# Altium footprint library ALTAIR_PD_NoLeads-FlatPackage.PcbLib: 5 footprints
Each footprint in its own frame and in the unit in brackets; x right, y up, seen from the top. Pads: shape width x height; smd on the part's side, far side on the other; paste and mask are expansions set on the pad; w line width, h text height; cw(c..) or ccw(c..) is an arc to the next point about the centre after c.
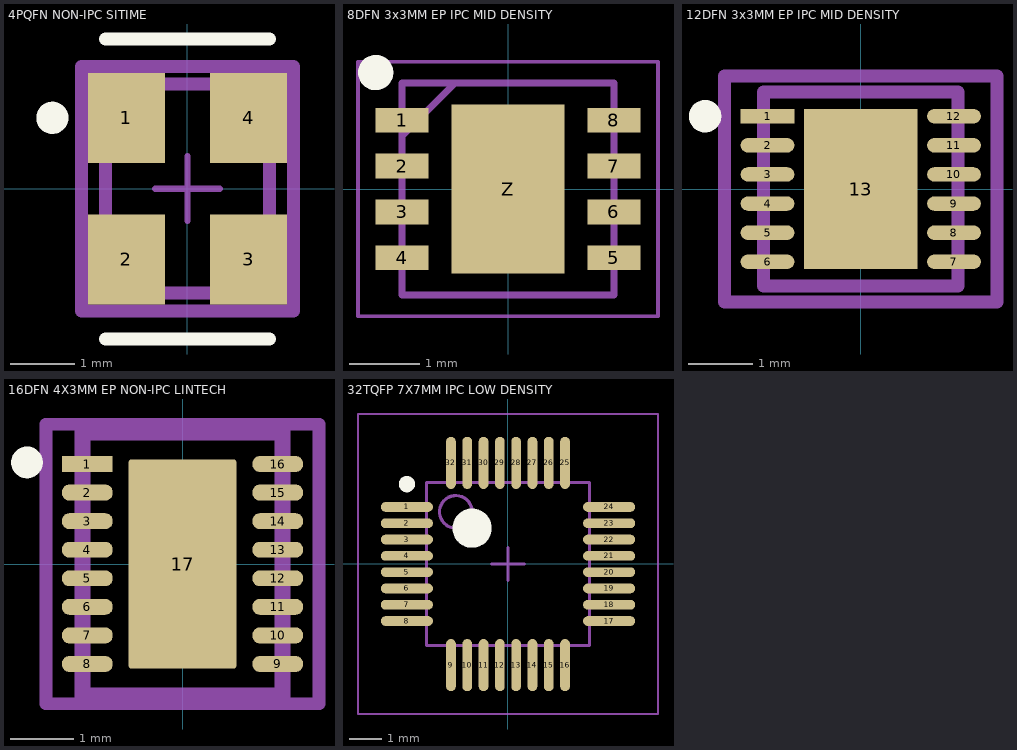
[diagram p0: the footprints below, top view; thin cyan lines are the x and y axes]

## 4PQFN NON-IPC SITIME [mm] "FP-SiT1602-2-MFG"
pads (4):
  rect 1.2x1.4 smd paste+0 mask+0: 1(-0.95,1.1) 2(-0.95,-1.1) 3(0.95,-1.1) 4(0.95,1.1)
Top Overlay:
  circle w0.25: c-2.1,1.1 r0.125
  lines w0.2: -1.275,-2.338 1.275,-2.338 ; -1.275,2.325 1.275,2.325
Top Assembly:
  lines w0.2: -1.65,-1.9 -1.65,1.9 1.65,1.9 1.65,-1.9 -1.65,-1.9
  text ".Designator" at 0,0.188 h1
Top Courtyard:
  lines w0.2: -1.65,-1.9 -1.65,1.9 1.65,1.9 1.65,-1.9 -1.65,-1.9
Top 3D Body:
  lines w0.2: -1.275,-1.625 -1.275,1.625 1.275,1.625 1.275,-1.625 -1.275,-1.625
Top Component Center:
  lines w0.1: -0.5,0 0.5,0 ; 0,-0.5 0,0.5
3D body "Crys_SiTime_SIT1602BI-22-18E-25_000000E_eec.STEP": height 0.25, standoff 0, extent -1.65,-1.9 1.65,1.9

## 8DFN 3x3MM EP IPC MID DENSITY [mm] "SON65P300X300X80-9N"
pads (9):
  rect 0.75x0.35 smd: 1(-1.5,0.975) 2(-1.5,0.325) 3(-1.5,-0.325) 4(-1.5,-0.975) 5(1.5,-0.975) 6(1.5,-0.325) 7(1.5,0.325) 8(1.5,0.975)
  rect 1.6x2.4 smd: Z(0,0)
Top Overlay:
  circle w0.25: c-1.875,1.65 r0.125
Mechanical 13:
  lines w0.1: -1.5,0.75 -0.75,1.5 ; -1.5,-1.5 1.5,-1.5 1.5,1.5 -1.5,1.5 -1.5,-1.5
Mechanical 15:
  lines w0.05: -2.125,-1.8 2.125,-1.8 2.125,1.8 -2.125,1.8 -2.125,-1.8
3D body "MAX5422ETA+T.stp": height 0.8, standoff 0, extent -1.55,-1.5 1.55,1.5

## 12DFN 3x3MM EP IPC MID DENSITY [mm] "Exposed pad, Analog Devices logo"
pads (13):
  rect 0.831x0.222 smd paste+0 mask+0: 1(-1.441,1.125)
  rrect100% 0.831x0.222 smd paste+0 mask+0: 2(-1.441,0.675) 3(-1.441,0.225) 4(-1.441,-0.225) 5(-1.441,-0.675) 6(-1.441,-1.125) 7(1.441,-1.125) 8(1.441,-0.675) 9(1.441,-0.225) 10(1.441,0.225) 11(1.441,0.675) 12(1.441,1.125)
  rect 1.75x2.48 smd paste-1000 mask-0.05: 13(0,0)
Top Overlay:
  circle w0.25: c-2.406,1.125 r0.125
Top Paste:
  rectangle: -0.501,-0.866 0.501,0.866
Top Assembly:
  lines w0.2: -2.106,-1.75 2.106,-1.75 2.106,1.75 -2.106,1.75 -2.106,-1.75
  text ".Designator" at 0,0 h1
Top Courtyard:
  lines w0.2: -2.106,-1.75 2.106,-1.75 2.106,1.75 -2.106,1.75 -2.106,-1.75
Top 3D Body:
  lines w0.2: -1.5,-1.5 1.5,-1.5 1.5,1.5 -1.5,1.5 -1.5,-1.5
Top Component Center:
  lines w0.1: -0.5,0 0.5,0 ; 0,-0.5 0,0.5
3D body "IC_Analog_Devices_LTC3600EDD#PBF_eec.STEP": height 0.8, standoff 0, extent -1.5,-1.5 1.5,1.5

## 16DFN 4X3MM EP NON-IPC LINTECH [mm]
pads (17):
  rect 0.8x0.25 smd mask+0: 1(-1.5,1.575)
  rrect91% 0.8x0.25 smd mask+0: 2(-1.5,1.125) 3(-1.5,0.675) 4(-1.5,0.225) 5(-1.5,-0.225) 6(-1.5,-0.675) 7(-1.5,-1.125) 8(-1.5,-1.575) 9(1.5,-1.575) 10(1.5,-1.125) 11(1.5,-0.675) 12(1.5,-0.225) 13(1.5,0.225) 14(1.5,0.675) 15(1.5,1.125) 16(1.5,1.575)
  rrect6% 1.7x3.3 smd mask+0: 17(0,0)
Top Overlay:
  circle w0.25: c-2.451,1.6 r0.125
Top Assembly:
  lines w0.2: -2.15,-2.2 -2.15,2.2 2.15,2.2 2.15,-2.2 -2.15,-2.2
Top Courtyard:
  lines w0.2: -2.15,-2.2 -2.15,2.2 2.15,2.2 2.15,-2.2 -2.15,-2.2
Top 3D Body:
  lines w0.254: -1.575,-2.075 1.575,-2.075 1.575,2.075 -1.575,2.075 -1.575,-2.075
Top Component Center:
  lines w0.1: -0.5,0 0.5,0 ; 0,-0.5 0,0.5
3D body "05-08-1732_ADI.step": height 0.81, standoff 0, extent -1.552,-2.045 1.546,2.045

## 32TQFP 7X7MM IPC LOW DENSITY [mm] "TSQFP50P700X700X120-32M"
pads (32):
  oval 1.6x0.3 smd mask-0.035: 1(-3.1,1.75) 2(-3.1,1.25) 3(-3.1,0.75) 4(-3.1,0.25) 5(-3.1,-0.25) 6(-3.1,-0.75) 7(-3.1,-1.25) 8(-3.1,-1.75) 17(3.1,-1.75) 18(3.1,-1.25) 19(3.1,-0.75) 20(3.1,-0.25) 21(3.1,0.25) 22(3.1,0.75) 23(3.1,1.25) 24(3.1,1.75)
  oval 0.3x1.6 smd mask-0.035: 9(-1.75,-3.1) 10(-1.25,-3.1) 11(-0.75,-3.1) 12(-0.25,-3.1) 13(0.25,-3.1) 14(0.75,-3.1) 15(1.25,-3.1) 16(1.75,-3.1) 25(1.75,3.1) 26(1.25,3.1) 27(0.75,3.1) 28(0.25,3.1) 29(-0.25,3.1) 30(-0.75,3.1) 31(-1.25,3.1) 32(-1.75,3.1)
Top Overlay:
  circle w0.6: c-1.1,1.1 r0.3
  circle w0.25: c-3.1,2.45 r0.125
Top Assembly:
  circle w0.1: c-1.6,1.6 r0.5
  lines w0.1: -2.5,-2.5 2.5,-2.5 2.5,2.5 -2.5,2.5 -2.5,-2.5
Top Courtyard:
  lines w0.05: -4.6,-4.6 4.6,-4.6 4.6,4.6 -4.6,4.6 -4.6,-4.6
  lines w0.1: -0.5,0 0.5,0 ; 0,-0.5 0,0.5
3D body "TSQFP50P700X700X120-32M.step": height 1.2, standoff 0, extent -3.5,-3.5 3.5,3.5